# EAGLE library part LED-DSP (library led-display)
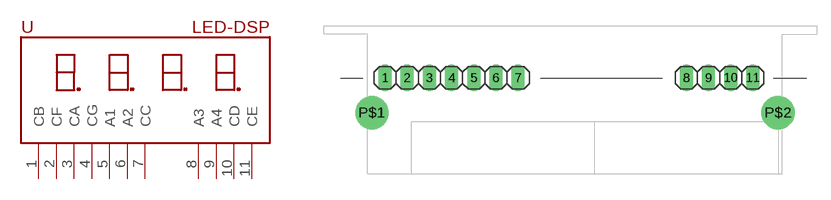
[diagram p0: symbol with the pads of LED-DSP; footprint LED-DSP]

Designator prefix -

## LED-DSP  [LED-DSP]
1  CB  in
2  CF  in
3  CA  in
4  CG  in
5  A1  in
6  A2  in
7  CC  in
8  A3  in
9  A4  in
10  CD  in
11  CE  in

## Footprint LED-DSP (pad centres in mm)
drill 1.016 long: 1 0,0; 2 2.54,0; 3 5.08,0; 4 7.62,0; 5 10.16,0; 6 12.7,0; 7 15.24,0; 8 34.5,0; 9 37.04,0; 10 39.58,0; 11 42.12,0
drill 2.2 pad 3.81: P$1 -1.5,-4; P$2 45,-4